# Altium schematic symbol library nrf52840_qfaa.SCHLIB: 15 symbols
Pins are listed as number, name and electrical type; pins without a type are passive.

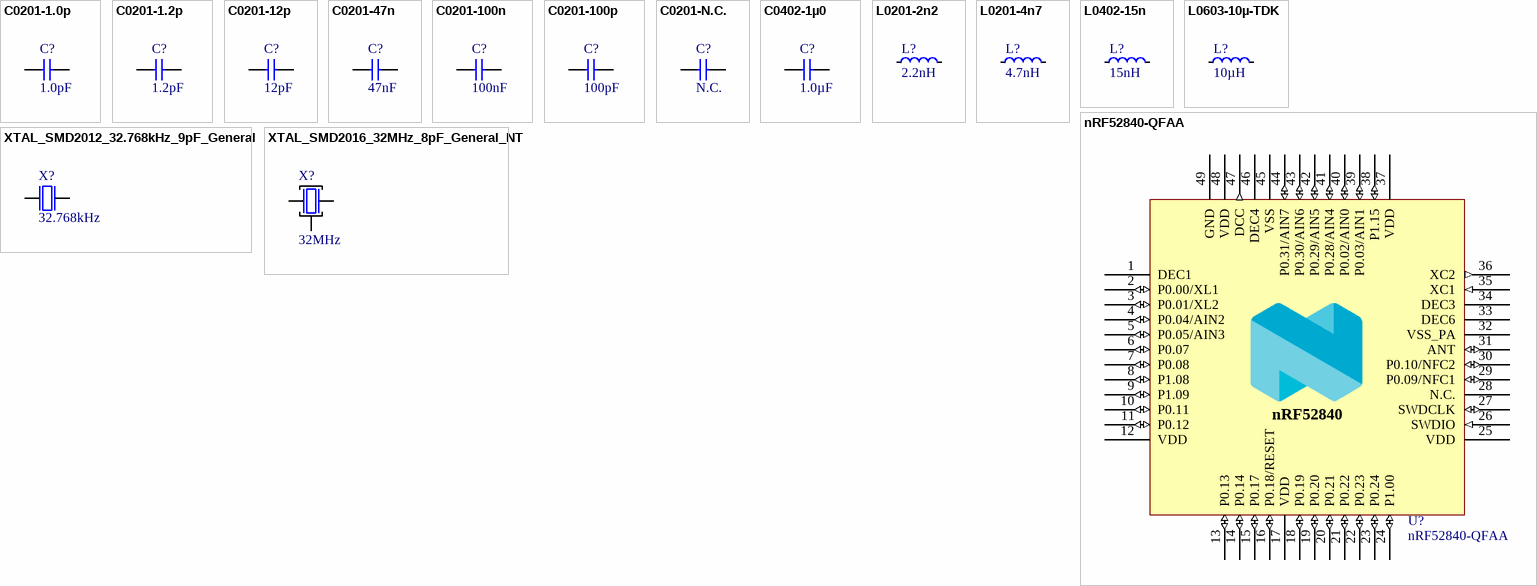
[diagram p0: symbols C0201-1.0p to XTAL_SMD2016_32MHz_8pF_General_NT]

## C0201-1.0p
designator C?, comment 1.0pF
Capacitor, NP0, ±0.05pF, 50V; Part Number: C0201-1.0p; Pad Count: 2; LatestRevisionDate: 2018-10-22; Published: 2014-11-13; Value: 1.0pF; Footprint Doc: 0201; Component Class: Capacitors
footprint CAPC0603X03L_C
pins: 1, 2

## C0201-1.2p
designator C?, comment 1.2pF
Capacitor, C0G, ±0.1pF, 50V; Part Number: C0201-1.2p; Pad Count: 2; LatestRevisionDate: 2020-10-13; Published: 2014-11-13; Value: 1.2pF; Footprint Doc: 0201; Component Class: Capacitors
footprint CAPC0603X03L_C
pins: 1, 2

## C0201-12p
designator C?, comment 12pF
Capacitor, NP0, ±2%; Part Number: C0201-12p; Pad Count: 2; LatestRevisionDate: 2017-11-09; Published: 2014-11-13; Value: 12pF; Footprint Doc: 0201; Component Class: Capacitors
footprint CAPC0603X03L_C
pins: 1, 2

## C0201-47n
designator C?, comment 47nF
Capacitor, X5R, ±10%; Part Number: C0201-47n; Pad Count: 2; LatestRevisionDate: 2017-11-09; Published: 2014-11-13; Value: 47nF; Footprint Doc: 0201; Component Class: Capacitors
footprint CAPC0603X03L_C
pins: 1, 2

## C0201-100n
designator C?, comment 100nF
Capacitor, X5R, ±10%; Part Number: C0201-100n; Pad Count: 2; LatestRevisionDate: 2017-11-09; Published: 2014-11-13; Value: 100nF; Footprint Doc: 0201; Component Class: Capacitors
footprint CAPC0603X03L_C
pins: 1, 2

## C0201-100p
designator C?, comment 100pF
Capacitor, NP0, ±2%, 25V; Part Number: C0201-100p; Pad Count: 2; LatestRevisionDate: 2019-04-16; Published: 2019-04-16; Value: 100pF; Footprint Doc: 0201; Component Class: Capacitors
footprint CAPC0603X03L_C
pins: 1, 2

## C0201-N.C.
designator C?, comment N.C.
Not mounted; Part Number: C0201-N.C.; Assembly: Not mounted; Pad Count: 2; LatestRevisionDate: 2014-11-13; Published: 2014-11-13; Value: N.C.; Footprint Doc: 0201; Component Class: Capacitors
footprint CAPC0603X03L_C_NC
pins: 1, 2

## C0402-1µ0
designator C?, comment 1.0µF
Capacitor, X5R, ±5%, 6.3V; Part Number: C0402-1µ0; Pad Count: 2; LatestRevisionDate: 2016-08-22; Published: 2009-05-08; Value: 1.0µF; Footprint Doc: 0402; Component Class: Capacitors
footprint CAPC1005X04L
pins: 1, 2

## L0201-2n2
designator L?, comment 2.2nH
Chip Inductor; Part Number: L0201-2n2; Pad Count: 2; LatestRevisionDate: 2013-04-10; Published: 2013-04-10; Value: 2.2nH; Footprint Doc: 0201; Component Class: Inductors
footprint INDC0603X03L_C
pins: 1, 2

## L0201-4n7
designator L?, comment 4.7nH
Inductor, 350mA, ±3%; Part Number: L0201-4n7; Pad Count: 2; LatestRevisionDate: 2013-04-10; Published: 2013-04-10; Value: 4.7nH; Footprint Doc: 0201; Component Class: Inductors
footprint INDC0603X03L_C
pins: 1, 2

## L0402-15n
designator L?, comment 15nH
Inductor, 320mA, ±5%; Part Number: L0402-15n; Pad Count: 2; LatestRevisionDate: 2012-09-19; Published: 2010-07-12; Value: 15nH; Footprint Doc: 0402; Component Class: Inductors
footprint INDC1005X04L
pins: 1, 2

## L0603-10µ-TDK
designator L?, comment 10µH
Inductor, 250mA, ±20%, 1.05ohm. -55°C ~ 125°C; Part Number: L0603-10µ-TDK; Pad Count: 2; LatestRevisionDate: 2012-09-19; Published: 2019-05-06; Value: 10µH; Footprint Doc: 0603; Component Class: Inductors
footprint INDC1608X06L
pins: 1, 2

## nRF52840-QFAA
designator U?
Multi-protocol Bluetooth Low Energy, IEEE 802.15.4, ANT and 2.4GHz proprietary system-on-chip; Pad Count: 48; Part Number: nRF52840-QFAA; LatestRevisionDate: 2016-11-22; Published: 2016-03-31; Value: nRF52840-QFAA; Footprint Doc: QFN-48; Component Class: nRF_Devices
footprint QFN40P600X600X90-48N
pins: 1 DEC1 (power), 2 P0.00/XL1 (io), 3 P0.01/XL2 (io), 4 P0.04/AIN2 (io), 5 P0.05/AIN3 (io), 6 P0.07 (io), 7 P0.08 (io), 8 P1.08 (io), 9 P1.09 (io), 10 P0.11 (io), 11 P0.12 (io), 12 VDD (power), 13 P0.13 (io), 14 P0.14 (io), 15 P0.17 (io), 16 P0.18/RESET (io), 17 VDD (power), 18 P0.19 (io), 19 P0.20 (io), 20 P0.21 (io), 21 P0.22 (io), 22 P0.23 (io), 23 P0.24 (io), 24 P1.00 (io), 25 VDD (power), 26 SWDIO (in), 27 SWDCLK (io), 28 N.C., 29 P0.09/NFC1 (io), 30 P0.10/NFC2 (io), 31 ANT (io), 32 VSS_PA (power), 33 DEC6 (power), 34 DEC3 (power), 35 XC1 (in), 36 XC2 (out), 37 VDD (power), 38 P1.15 (io), 39 P0.03/AIN1 (io), 40 P0.02/AIN0 (io), 41 P0.28/AIN4 (io), 42 P0.29/AIN5 (io), 43 P0.30/AIN6 (io), 44 P0.31/AIN7 (io), 45 VSS (power), 46 DEC4 (power), 47 DCC (out), 48 VDD (power), 49 GND (power) hidden to GND, 49 GND (power)
text: nRF52840

## XTAL_SMD2012_32.768kHz_9pF_General
designator X?, comment 32.768kHz
XTAL SMD 2012, 32.768kHz, Cl=9pF, Total Tol: ±50ppm; Part Number: XTAL_SMD2012_32.768kHz_9pF_General; Pad Count: 2; LatestRevisionDate: 2017-01-11; Published: 2016-08-19; Value: 32.768kHz; Footprint Doc: XTAL_2012; Component Class: Oscillators
footprint XTAL_2012
pins: 1 inp, 2 out

## XTAL_SMD2016_32MHz_8pF_General_NT
designator X?, comment 32MHz
XTAL SMD 2016, 32MHz, Cl=8pF, Total Tol: ±30ppm; Part Number: XTAL_SMD2016_32MHz_8pF_General_NT; Pad Count: 4; LatestRevisionDate: 2021-04-08; Published: 2021-04-08; Value: 32MHz; Footprint Doc: XTAL_2016; Component Class: Oscillators
footprint XTAL_2016_NT
pins: 1 IN, 2 GND, 3 OUT